# Altium schematic symbol library DS3231.SchLib: 1 symbol
Pins are listed as number, name and electrical type; pins without a type are passive.

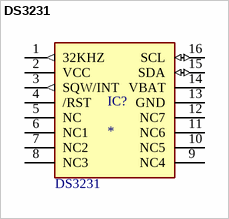
[diagram p0: symbol DS3231]

## DS3231
designator IC?
Real Time Clock (RTC) IC Clock/Calendar - IÂ²C, 2-Wire Serial 8-SOIC (0.154, 3.90mm Width); MP: DS3231; MF: Maxim Integrated; Check_prices: https://www.snapeda.com/parts/DS3231/Maxim+Integrated/view-part/?ref=eda; Value: *; Availability: In Stock; Price: None; Package: SOIC-16 Maxim Integrated; SnapEDA_Link: https://www.snapeda.com/parts/DS3231/Maxim+Integrated/view-part/?ref=snap; Purchase-URL: https://pricing.snapeda.com/search/part/DS3231/?ref=eda
footprint SO16W
pins: 1 32KHZ (out), 2 VCC (power), 3 SQW/INT (out), 4 /RST, 5 NC, 6 NC1, 7 NC2, 8 NC3, 9 NC4, 10 NC5, 11 NC6, 12 NC7, 13 GND (power), 14 VBAT (power), 15 SDA (io), 16 SCL (io)